# Altium schematic symbol library 43650-0219.SchLib: 1 symbol
Pins are listed as number, name and electrical type; pins without a type are passive.

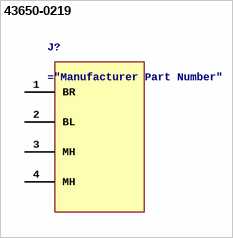
[diagram p0: symbol 43650-0219]

## 43650-0219
designator J?
Connector Header Through Hole 2 position 0.118" (3.00mm)
pins: 1 BR, 2 BL, 3 MH, 4 MH